# EAGLE library part ESP07 (library ESP)
ESP07 Footprint
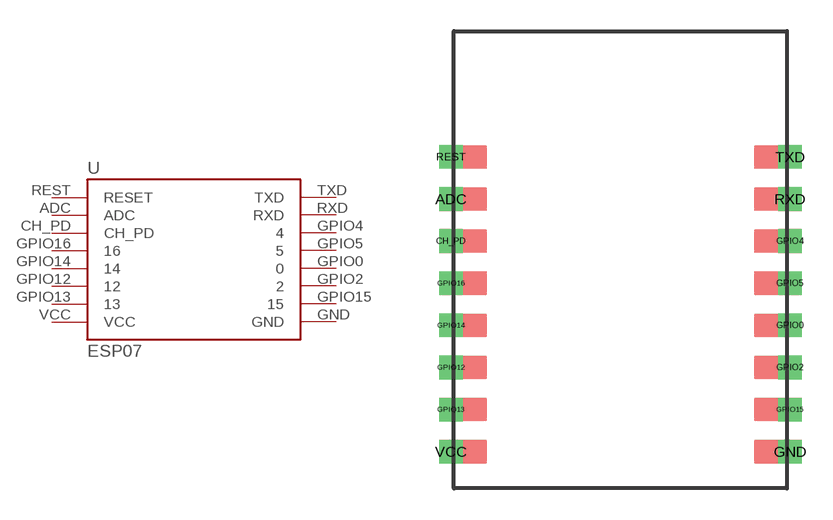
[diagram p0: symbol with the pads of ESP07; footprint ESP07]

Designator prefix U

## ESP07FULL  [ESP07]
ADC  ADC  in
CH_PD  CH_PD  in
GND  GND  pwr
GPIO0  0
GPIO2  2
GPIO4  4
GPIO5  5
GPIO12  12
GPIO13  13
GPIO14  14
GPIO15  15
GPIO16  16
REST  RESET  in
RXD  RXD  out
TXD  TXD  in
VCC  VCC  pwr

## Footprint ESP07 (pad centres in mm)
Wi07-12 Footprint with extra width for soldering.
drill 0.008 pad 1.143 square: ADC -0.146,13.97; CH_PD -0.146,11.938; GND 16.202,1.778; GPIO0 16.202,7.874; GPIO2 16.202,5.842; GPIO4 16.202,11.938; GPIO5 16.202,9.906; GPIO12 -0.146,5.842; GPIO13 -0.146,3.81; GPIO14 -0.146,7.874; GPIO15 16.202,3.81; GPIO16 -0.146,9.906; REST -0.146,16.002; RXD 16.202,13.97; TXD 16.202,16.002; VCC -0.146,1.778